# Altium footprint library Switch-4x4x1.5_4P.PCBLIB: 2 footprints
Each footprint in its own frame and in the unit in brackets; x right, y up, seen from the top. Pads: shape width x height; smd on the part's side, far side on the other; paste and mask are expansions set on the pad; w line width, h text height; cw(c..) or ccw(c..) is an arc to the next point about the centre after c.
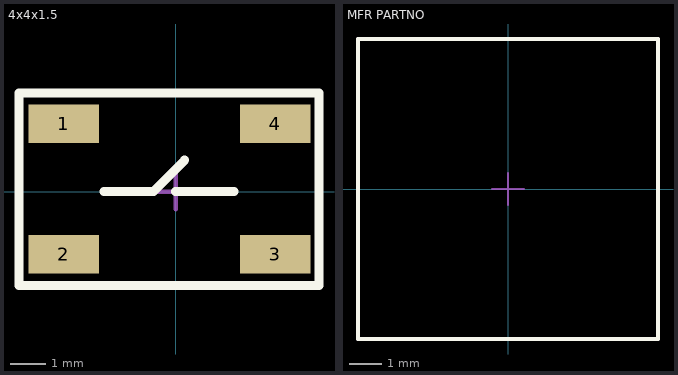
[diagram p0: the footprints below, top view; thin cyan lines are the x and y axes]

## 4x4x1.5 [mm]
pads (4):
  rect 2x1.1 smd: 1(-3.175,1.922) 2(-3.175,-1.778) 3(2.825,-1.778) 4(2.825,1.922)
Top Overlay:
  lines w0.254: -2.032,0 -0.635,0 0.254,0.889 ; 0,0 1.651,0 ; -4.445,-2.667 -4.445,2.794 -4.191,2.794 4.064,2.794 4.064,-2.667 -4.445,-2.667
Top 中心点:
  lines w0.127: -0.5,0 0.5,0 ; 0,-0.5 0,0.5
3D body "skqga.stp": height 1.4, standoff 0, extent -3.4,-2.6 3,2.6

## MFR PARTNO [mm] "记得设置高度"
Top Overlay:
  lines w0.127: -4.7,-4.7 -4.7,4.7 4.7,4.7 4.7,-4.7 -4.7,-4.7
Top 元件外形:
  lines w0.127: -4.7,-4.7 4.7,-4.7 4.7,4.7 -4.7,4.7 -4.7,-4.7
Top 中心点:
  lines w0.051: -0.5,0 0.5,0 ; 0,-0.5 0,0.5